# Altium schematic symbol library ThangTM_Sch.SchLib: 137 symbols (part 1 of 4)
Pins are listed as number, name and electrical type; pins without a type are passive.

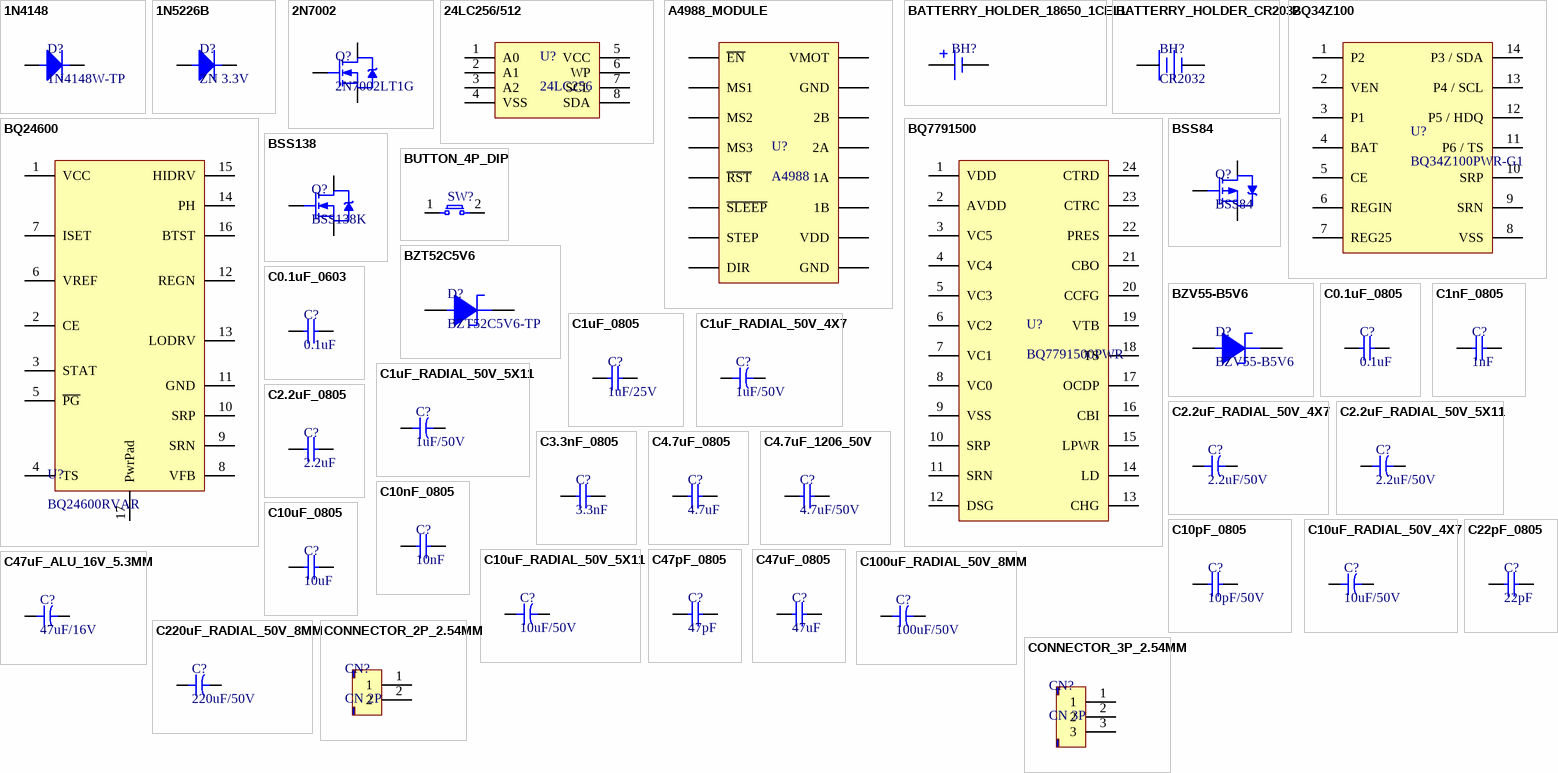
[diagram p0: symbols 1N4148 to CONNECTOR_3P_2.54MM]

## 1N4148
designator D?, comment 1N4148W-TP
DIODE GEN PURP 100V 150MA SOD123; Manufacturer: MCC; Max Surge Current: 2A; Forward Voltage: 1V; Recovery Time: 4ns; Max Reverse Leakage Current: 5uA; Power Dissipation: 400mW; Max Forward Surge Current (Ifsm): 1A; Element Configuration: Single; Polarity: Standard; Capacitance: 4pF; Supplier 1: Digi-Key; Supplier Part Number 1: 1N4148WTPMSCT-ND; Manufacturer Part Number: 1N4148W-TP; Stock 1: 463995; Pricing 1: 1 = 0.10000, 10 = 0.08100, 100 = 0.03400, 500 = 0.02670, 1000 = 0.01854 (USD); RoHS: Yes; Mount: Surface Mount; Number of Pins: 2; Min Operating Temperature: -65°C; Max Operating Temperature: 150°C; Packaging: Tape and Reel; Forward Current: 150mA; Package Quantity: 3000; Average Rectified Current: 150mA; Reverse Recovery Time: 4ns; Max Repetitive Reverse Voltage (Vrrm): 100V; Peak Non-Repetitive Surge Current: 2A; Voltage Rating (DC): 100V; Current Rating: 150mA; Output Current: 150mA; Max Reverse Voltage (DC): 100V; Length: 2.85mm; Height: 1.2mm; Width: 1.8mm; Radiation Hardening: No; REACH SVHC: Unknown; Lead Free: Lead Free; ComponentLink1URL: https://datasheet.ciiva.com/1243/1684829-1243908.pdf?src-supplier=Newark; ComponentLink1Description: https://datasheet.ciiva.com/1243/1684829-1243908.pdf?src-supplier=Newark; ComponentLink2URL: https://datasheet.ciiva.com/4435/1n4148wsod123-48460-4435223.pdf?src-supplier=Mouser; ComponentLink2Description: https://datasheet.ciiva.com/4435/1n4148wsod123-48460-4435223.pdf?src-supplier=Mouser; ComponentLink3URL: https://datasheet.ciiva.com/16836/1n4148wsod123-16836277.pdf?src-supplier=Future+Electronics; ComponentLink3Description: https://datasheet.ciiva.com/16836/1n4148wsod123-16836277.pdf?src-supplier=Future+Electronics; ComponentLink4URL: https://datasheet.ciiva.com/911/1n4148wsod123-911676.pdf?src-supplier=Digi-Key; ComponentLink4Description: https://datasheet.ciiva.com/911/1n4148wsod123-911676.pdf?src-supplier=Digi-Key; ComponentLink5URL: https://datasheet.ciiva.com/7622/1684829-7622556.pdf?src-supplier=Element14; ComponentLink5Description: https://datasheet.ciiva.com/7622/1684829-7622556.pdf?src-supplier=Element14; ComponentLink6URL: https://datasheet.ciiva.com/22747/1684829-22747439.pdf?src-supplier=Element14; ComponentLink6Description: https://datasheet.ciiva.com/22747/1684829-22747439.pdf?src-supplier=Element14; ComponentLink7URL: https://datasheet.ciiva.com/14557/70055519-14557767.pdf?src-supplier=Allied+Electronics; ComponentLink7Description: https://datasheet.ciiva.com/14557/70055519-14557767.pdf?src-supplier=Allied+Electronics; ComponentLink8URL: https://datasheet.ciiva.com/911/1n4148wsod123-911677.pdf?src-supplier=Digi-Key; ComponentLink8Description: https://datasheet.ciiva.com/911/1n4148wsod123-911677.pdf?src-supplier=Digi-Key; ComponentLink9URL: https://datasheet.ciiva.com/911/1n4148wsod123-911678.pdf?src-supplier=Digi-Key; ComponentLink9Description: https://datasheet.ciiva.com/911/1n4148wsod123-911678.pdf?src-supplier=Digi-Key
footprint SOD_123
pins: 1 Anode, 2 Cathode

## 1N5226B
designator D?, comment ZN 3.3V
DIODE ZENER 3.3V 500MW DO35; Manufacturer: ON Semiconductor / Fairchild; Manufacturer Part Number: 1N5226BTR; Tolerance: 5%; Forward Voltage: 1.2V; Impedance: 28R; Max Reverse Leakage Current: 25uA; Zener Current: 20mA; Element Configuration: Single; ESD Protection: No; Supplier 1: Digi-Key; Stock 1: 17133; Pricing 1: 1 = 0.14000, 10 = 0.12700, 25 = 0.12120, 100 = 0.05320, 250 = 0.05112, 500 = 0.04182, 1000 = 0.02904, 2500 = 0.02536 (USD); RoHS: Yes; Mount: Through Hole; Number of Pins: 2; Weight: 80g; Contact Plating: Tin,Matte; Min Operating Temperature: -65°C; Max Operating Temperature: 200°C; Packaging: Tape and Reel; Max Power Dissipation: 500mW; Package Quantity: 5000; Zener Voltage: 3.3V; Power Dissipation: 500mW; Voltage Tolerance: 5%; Test Current: 20mA; Working Voltage: 3.3V; Peak Reverse Current: 25uA; Power Rating: 500mW; Voltage Rating (DC): 3.3V; Diameter: 1.91mm; Length: 4.56mm; Radiation Hardening: No; REACH SVHC: No SVHC; Lead Free: Lead Free; ComponentLink1URL: https://datasheet.ciiva.com/34302/1200362-34302069.pdf?src-supplier=Jameco; ComponentLink1Description: https://datasheet.ciiva.com/34302/1200362-34302069.pdf?src-supplier=Jameco; ComponentLink2URL: https://datasheet.ciiva.com/8346/1n5230b-8346102.pdf?src-supplier=Avnet; ComponentLink2Description: https://datasheet.ciiva.com/8346/1n5230b-8346102.pdf?src-supplier=Avnet; ComponentLink3URL: https://datasheet.ciiva.com/8346/1n5230b-8346105.pdf?src-supplier=Avnet; ComponentLink3Description: https://datasheet.ciiva.com/8346/1n5230b-8346105.pdf?src-supplier=Avnet; ComponentLink4URL: https://datasheet.ciiva.com/26247/1n5230b-26247818.pdf?src-supplier=Avnet+Europe; ComponentLink4Description: https://datasheet.ciiva.com/26247/1n5230b-26247818.pdf?src-supplier=Avnet+Europe; ComponentLink5URL: https://datasheet.ciiva.com/46425/1727536-46425885.pdf?src-supplier=Element14; ComponentLink5Description: https://datasheet.ciiva.com/46425/1727536-46425885.pdf?src-supplier=Element14; Supplier Part Number 1: 1N5226BFSCT-ND
footprint DO35
pins: 1 Anode, 2 Cathode

## 2N7002
designator Q?, comment 2N7002LT1G
MOSFET N-CH 60V 0.115A SOT-23; Manufacturer: ON Semiconductor; Continuous Drain Current (ID): 115mA; Turn-Off Delay Time: 40ns; Turn-On Delay Time: 20ns; Gate to Source Voltage (Vgs): 20V; Rds On Max: 7.5R; Input Capacitance: 50pF; Nominal Vgs: 2.5V; Number of Elements: 1; Max Power Dissipation: 225mW; Power Dissipation: 300mW; Element Configuration: Single; Supplier 1: Digi-Key; Supplier Part Number 1: 2N7002LT1GOSCT-ND; Manufacturer Part Number: 2N7002LT1G; Stock 1: 2007608; Pricing 1: 1 = 0.19000, 10 = 0.16900, 100 = 0.07080, 500 = 0.05564, 1000 = 0.03864 (USD); RoHS: Yes; Case/Package: SOT-23-3; Number of Pins: 3; Contact Plating: Tin,Matte; Min Operating Temperature: -55°C; Max Operating Temperature: 150°C; Package Quantity: 1; Packaging: Tape and Reel; Drain to Source Voltage (Vdss): 60V; Drain to Source Breakdown Voltage: 60V; Drain to Source Resistance: 7.5R; Threshold Voltage: 2.5V; Voltage Rating (DC): 60V; Current Rating: 115mA; On-State Resistance: 7.5R; Number of Channels: 1; Length: 3.04mm; Height: 1.01mm; Width: 1.4mm; Radiation Hardening: No; REACH SVHC: No SVHC; Lead Free: Lead Free; Halogen Free: Halogen Free; ComponentLink1URL: https://datasheet.ciiva.com/936/2n7002l-d-936784.pdf?src-supplier=Digi-Key; ComponentLink1Description: https://datasheet.ciiva.com/936/2n7002l-d-936784.pdf?src-supplier=Digi-Key; ComponentLink2URL: https://datasheet.ciiva.com/22749/1747988-22749570.pdf?src-supplier=Element14; ComponentLink2Description: https://datasheet.ciiva.com/22749/1747988-22749570.pdf?src-supplier=Element14; ComponentLink3URL: https://datasheet.ciiva.com/1188/97418-1188470.pdf?src-supplier=Element14; ComponentLink3Description: https://datasheet.ciiva.com/1188/97418-1188470.pdf?src-supplier=Element14; ComponentLink4URL: https://datasheet.ciiva.com/936/2n7002l-d-936785.pdf?src-supplier=Digi-Key; ComponentLink4Description: https://datasheet.ciiva.com/936/2n7002l-d-936785.pdf?src-supplier=Digi-Key; ComponentLink5URL: https://datasheet.ciiva.com/936/2n7002l-d-936786.pdf?src-supplier=Digi-Key; ComponentLink5Description: https://datasheet.ciiva.com/936/2n7002l-d-936786.pdf?src-supplier=Digi-Key; ComponentLink6URL: https://datasheet.ciiva.com/1254/1747988-1254500.pdf?src-supplier=Newark; ComponentLink6Description: https://datasheet.ciiva.com/1254/1747988-1254500.pdf?src-supplier=Newark; ComponentLink7URL: https://datasheet.ciiva.com/24157/2n7002l-d-24157398.pdf?src-supplier=Future+Electronics; ComponentLink7Description: https://datasheet.ciiva.com/24157/2n7002l-d-24157398.pdf?src-supplier=Future+Electronics; ComponentLink8URL: https://datasheet.ciiva.com/1188/97418-1188471.pdf?src-supplier=Element14; ComponentLink8Description: https://datasheet.ciiva.com/1188/97418-1188471.pdf?src-supplier=Element14; ComponentLink9URL: https://datasheet.ciiva.com/8114/2n7002l-d-8114823.pdf?src-supplier=Avnet; ComponentLink9Description: https://datasheet.ciiva.com/8114/2n7002l-d-8114823.pdf?src-supplier=Avnet; ComponentLink10URL: https://datasheet.ciiva.com/3304/2n7002l-d-3304393.pdf?src-supplier=Avnet; ComponentLink10Description: https://datasheet.ciiva.com/3304/2n7002l-d-3304393.pdf?src-supplier=Avnet; ComponentLink11URL: https://datasheet.ciiva.com/26146/2n7002l-d-26146173.pdf?src-supplier=Avnet+Europe; ComponentLink11Description: https://datasheet.ciiva.com/26146/2n7002l-d-26146173.pdf?src-supplier=Avnet+Europe; ComponentLink12URL: https://datasheet.ciiva.com/16542/2n7002l-d-16542607.pdf?src-supplier=Avnet+Asia; ComponentLink12Description: https://datasheet.ciiva.com/16542/2n7002l-d-16542607.pdf?src-supplier=Avnet+Asia
footprint SOT_23
pins: 1 G, 2 D, 3 S

## 24LC256/512
designator U?, comment 24LC256
footprint SOIC8
pins: 1 A0, 2 A1, 3 A2, 4 VSS, 5 VCC, 6 WP, 7 SCL, 8 SDA

## A4988_MODULE
designator U?, comment A4988
footprint MODULE_A4988
pins: 1 ~{EN}, 2 MS1, 3 MS2, 4 MS3, 5 ~{RST}, 6 ~{SLEEP}, 7 STEP, 8 DIR, 9 GND, 10 VDD, 11 1B, 12 1A, 13 2A, 14 2B, 15 GND, 16 VMOT

## BATTERRY_HOLDER_18650_1CELL
designator BH?, comment BH-18650-PC  (value not drawn)
Manufacturer: Memory Protection Devices; Number of Cells: 1; Supplier 1: Digi-Key; Supplier Part Number 1: BH-18650-PC-ND; Manufacturer Part Number: BH-18650-PC; Stock 1: 5780; Pricing 1: 1 = 3.79000, 10 = 3.18700, 100 = 2.63470, 500 = 2.27082, 1000 = 2.12027 (USD); RoHS: Yes; Mount: Through Hole,PCB; Min Operating Temperature: -40°C; Max Operating Temperature: 180°C; Package Quantity: 100; Termination: PC Pin; ComponentLink1URL: https://datasheet.ciiva.com/3/bh-18650-pc-datasheet-3874.pdf?src-supplier=Digi-Key; ComponentLink1Description: https://datasheet.ciiva.com/3/bh-18650-pc-datasheet-3874.pdf?src-supplier=Digi-Key
footprint BATTERRY_HOLDER_18650_1CELL
pins: 1 P, 2 N

## BATTERRY_HOLDER_CR2032
designator BH?, comment CR2032
Manufacturer: Memory Protection Devices; Manufacturer Part Number: BH-18650-PC; Number of Cells: 1; Supplier 1: Digi-Key; Supplier Part Number 1: BH-18650-PC-ND; Stock 1: 5780; Pricing 1: 1 = 3.79000, 10 = 3.18700, 100 = 2.63470, 500 = 2.27082, 1000 = 2.12027 (USD); RoHS: Yes; Mount: Through Hole,PCB; Min Operating Temperature: -40°C; Max Operating Temperature: 180°C; Package Quantity: 100; Termination: PC Pin; ComponentLink1URL: https://datasheet.ciiva.com/3/bh-18650-pc-datasheet-3874.pdf?src-supplier=Digi-Key; ComponentLink1Description: https://datasheet.ciiva.com/3/bh-18650-pc-datasheet-3874.pdf?src-supplier=Digi-Key
footprint BATTERRY_HOLDER_CR2032
pins: 1 N, 2 P

## BQ34Z100
designator U?, comment BQ34Z100PWR-G1
IC BATT MGMT LIION/LPO4 14TSSOP; Manufacturer: Texas Instruments; Interface: I2C; Operating Supply Voltage: 4.5V; Supplier 1: Digi-Key; Supplier Part Number 1: 296-39949-1-ND; Manufacturer Part Number: BQ34Z100PWR-G1; Stock 1: 13988; Pricing 1: 1 = 4.20000, 10 = 3.77500, 100 = 2.93450, 500 = 2.53792, 1000 = 2.10965 (USD); RoHS: Yes; Mount: Surface Mount; Case/Package: TSSOP; Number of Pins: 14; Weight: 0.004949oz; Contact Plating: Gold; Min Operating Temperature: -40°C; Max Operating Temperature: 85°C; Packaging: Tape and Reel; Package Quantity: 2000; Lead Free: Lead Free; ComponentLink1URL: http://www.ti.com/general/docs/lit/getliterature.tsp?genericPartNumber=BQ34Z100-G1&amp;&amp;fileType=pdf&src-supplier=Avnet+Asia; ComponentLink1Description: http://www.ti.com/general/docs/lit/getliterature.tsp?genericPartNumber=BQ34Z100-G1&amp;&amp;fileType=pdf&src-supplier=Avnet+Asia; ComponentLink2URL: http://www.ti.com/general/docs/lit/getliterature.tsp?genericPartNumber=BQ34Z100-G1&&fileType=pdf&src-supplier=Avnet; ComponentLink2Description: http://www.ti.com/general/docs/lit/getliterature.tsp?genericPartNumber=BQ34Z100-G1&&fileType=pdf&src-supplier=Avnet; ComponentLink3URL: http://www.ti.com/lit/ds/symlink/bq34z100-g1.pdf?src-supplier=Digi-Key; ComponentLink3Description: http://www.ti.com/lit/ds/symlink/bq34z100-g1.pdf?src-supplier=Digi-Key; ComponentLink4URL: http://www.ti.com/lit/gpn/bq34z100-g1?src-supplier=Mouser; ComponentLink4Description: http://www.ti.com/lit/gpn/bq34z100-g1?src-supplier=Mouser
footprint TSSOP14
pins: 1 P2, 2 VEN, 3 P1, 4 BAT, 5 CE, 6 REGIN, 7 REG25, 8 VSS, 9 SRN, 10 SRP, 11 P6 / TS, 12 P5 / HDQ, 13 P4 / SCL, 14 P3 / SDA

## BQ24600
designator U?, comment BQ24600RVAR
IC SYNC SW-MODE BAT CHRGR 16VQFN; Manufacturer: Texas Instruments; Min Supply Voltage: 5V; Max Supply Voltage: 28V; Output Current: 10A; Switching Frequency: 1.2MHz; Number of Cells: 123456; Supplier 1: Digi-Key; Supplier Part Number 1: 296-47740-1-ND; Manufacturer Part Number: BQ24600RVAR; Stock 1: 9000; Pricing 1: 1 = 5.76000, 10 = 5.17700, 100 = 4.02440, 500 = 3.48058, 1000 = 2.89323 (USD); RoHS: Yes; Case/Package: VQFN EP; Number of Pins: 16; Contact Plating: Gold; Min Operating Temperature: -40°C; Max Operating Temperature: 85°C; Package Quantity: 3000; Packaging: Tape and Reel; Min Input Voltage: 5V; Radiation Hardening: No; Lead Free: Lead Free; ComponentLink1URL: https://datasheet.ciiva.com/1934/bq24600-1934848.pdf?src-supplier=Digi-Key; ComponentLink1Description: https://datasheet.ciiva.com/1934/bq24600-1934848.pdf?src-supplier=Digi-Key; ComponentLink2URL: https://datasheet.ciiva.com/15115/getdatasheetpartid-517716-15115134.pdf?src-supplier=Verical; ComponentLink2Description: https://datasheet.ciiva.com/15115/getdatasheetpartid-517716-15115134.pdf?src-supplier=Verical; ComponentLink3URL: https://datasheet.ciiva.com/3214/bq24600-3214303.pdf?src-supplier=Avnet; ComponentLink3Description: https://datasheet.ciiva.com/3214/bq24600-3214303.pdf?src-supplier=Avnet
footprint VQFN16 (QFN, 16-Leads, Body 4.30x4.30mm, Pitch 0.50mm, Thermal Pad 2.14x2.14mm, IPC Medium Density)
pins: 1 VCC, 2 CE, 3 STAT, 4 TS, 5 ~{PG}, 6 VREF, 7 ISET, 8 VFB, 9 SRN, 10 SRP, 11 GND, 12 REGN, 13 LODRV, 14 PH, 15 HIDRV, 16 BTST, 17 PwrPad

## BQ7791500
designator U?, comment BQ7791500PWR
BQ7791500PW; Manufacturer: Texas Instruments; Supplier 1: Digi-Key; Supplier Part Number 1: 296-50995-1-ND; Manufacturer Part Number: BQ7791500PWR; Stock 1: 396; Pricing 1: 1 = 2.67000, 10 = 2.40200, 100 = 1.81280, 500 = 1.54088, 1000 = 1.22364 (USD); RoHS: No; ComponentLink1URL: http://www.ti.com/lit/ds/symlink/bq77915.pdf?src-supplier=Digi-Key; ComponentLink1Description: http://www.ti.com/lit/ds/symlink/bq77915.pdf?src-supplier=Digi-Key
footprint TSSOP24
pins: 1 VDD, 2 AVDD, 3 VC5, 4 VC4, 5 VC3, 6 VC2, 7 VC1, 8 VC0, 9 VSS, 10 SRP, 11 SRN, 12 DSG, 13 CHG, 14 LD, 15 LPWR, 16 CBI, 17 OCDP, 18 TS, 19 VTB, 20 CCFG, 21 CBO, 22 PRES, 23 CTRC, 24 CTRD

## BSS84
designator Q?
MOSFET P-CH 50V 130MA SOT-23; Manufacturer: ON Semiconductor / Fairchild; Nominal Vgs: -1.7V; Max Power Dissipation: 360mW; Rds On Max: 10R; Input Capacitance: 73pF; Number of Elements: 1; Rise Time: 6.3ns; Dual Supply Voltage: -50V; Turn-Off Delay Time: 10ns; Gate to Source Voltage (Vgs): 20V; Turn-On Delay Time: 2.5ns; Element Configuration: Single; Current Rating: -130mA; Current: 13A; Supplier 1: Digi-Key; Supplier Part Number 1: BSS84CT-ND; Manufacturer Part Number: BSS84; Stock 1: 474645; Pricing 1: 1 = 0.34000, 10 = 0.28000, 100 = 0.11470, 500 = 0.09564, 1000 = 0.06645 (USD); RoHS: Yes; Mount: Surface Mount; Case/Package: SOT-23; Number of Pins: 3; Contact Plating: Tin,Matte; Min Operating Temperature: -55°C; Max Operating Temperature: 150°C; Packaging: Tape and Reel; Package Quantity: 1; Drain to Source Voltage (Vdss): 50V; Continuous Drain Current (ID): 130mA; Fall Time: 6.3ns; Drain to Source Resistance: 10R; Power Dissipation: 360mW; Threshold Voltage: -1.7V; Termination: SMD/SMT; Drain to Source Breakdown Voltage: -50V; Voltage Rating (DC): -50V; Voltage: 50V; On-State Resistance: 10R; Length: 2.92mm; Height: 0.93mm; Width: 3.05mm; Radiation Hardening: No; REACH SVHC: No SVHC; Lead Free: Lead Free; ComponentLink1URL: https://datasheet.ciiva.com/5836/1718091-5836624.pdf?src-supplier=Farnell; ComponentLink1Description: https://datasheet.ciiva.com/5836/1718091-5836624.pdf?src-supplier=Farnell; ComponentLink2URL: https://datasheet.ciiva.com/15137/getdatasheetpartid-37444-15137081.pdf?src-supplier=Verical; ComponentLink2Description: https://datasheet.ciiva.com/15137/getdatasheetpartid-37444-15137081.pdf?src-supplier=Verical; ComponentLink3URL: https://datasheet.ciiva.com/4439/bss84-39462-4439115.pdf?src-supplier=Mouser; ComponentLink3Description: https://datasheet.ciiva.com/4439/bss84-39462-4439115.pdf?src-supplier=Mouser; ComponentLink4URL: https://datasheet.ciiva.com/1190/1718091-1190246.pdf?src-supplier=Element14; ComponentLink4Description: https://datasheet.ciiva.com/1190/1718091-1190246.pdf?src-supplier=Element14; ComponentLink5URL: https://datasheet.ciiva.com/931/bss84-931768.pdf?src-supplier=Digi-Key; ComponentLink5Description: https://datasheet.ciiva.com/931/bss84-931768.pdf?src-supplier=Digi-Key; ComponentLink6URL: https://datasheet.ciiva.com/1190/1718091-1190248.pdf?src-supplier=Element14; ComponentLink6Description: https://datasheet.ciiva.com/1190/1718091-1190248.pdf?src-supplier=Element14; ComponentLink7URL: https://datasheet.ciiva.com/931/bss84-931769.pdf?src-supplier=Digi-Key; ComponentLink7Description: https://datasheet.ciiva.com/931/bss84-931769.pdf?src-supplier=Digi-Key; ComponentLink8URL: https://datasheet.ciiva.com/8115/bss84-8115305.pdf?src-supplier=Avnet; ComponentLink8Description: https://datasheet.ciiva.com/8115/bss84-8115305.pdf?src-supplier=Avnet; ComponentLink9URL: https://datasheet.ciiva.com/931/bss84-931770.pdf?src-supplier=Digi-Key; ComponentLink9Description: https://datasheet.ciiva.com/931/bss84-931770.pdf?src-supplier=Digi-Key; ComponentLink10URL: https://datasheet.ciiva.com/22655/1718091-22655243.pdf?src-supplier=Element14; ComponentLink10Description: https://datasheet.ciiva.com/22655/1718091-22655243.pdf?src-supplier=Element14; ComponentLink11URL: https://datasheet.ciiva.com/8115/bss84-8115308.pdf?src-supplier=Avnet; ComponentLink11Description: https://datasheet.ciiva.com/8115/bss84-8115308.pdf?src-supplier=Avnet; ComponentLink12URL: https://datasheet.ciiva.com/26144/bss84-26144142.pdf?src-supplier=Avnet+Europe; ComponentLink12Description: https://datasheet.ciiva.com/26144/bss84-26144142.pdf?src-supplier=Avnet+Europe; ComponentLink13URL: https://datasheet.ciiva.com/1255/1718091-1255039.pdf?src-supplier=Newark; ComponentLink13Description: https://datasheet.ciiva.com/1255/1718091-1255039.pdf?src-supplier=Newark
footprint SOT_23
pins: 1 G, 2 D, 3 S

## BSS138
designator Q?, comment BSS138K
MOSFET N-CH 50V 220MA SOT-23-3; Manufacturer: ON Semiconductor / Fairchild; Input Capacitance: 58pF; Number of Elements: 1; Max Power Dissipation: 350mW; Nominal Vgs: 600mV; Rds On Max: 1.6R; Drain to Source Resistance: 2.5R; Turn-Off Delay Time: 60ns; Turn-On Delay Time: 5ns; Element Configuration: Single; Gate to Source Voltage (Vgs): 12V; Fall Time: 35ns; Supplier 1: Digi-Key; Manufacturer Part Number: BSS138K; Stock 1: 465935; Pricing 1: 1 = 0.36000, 10 = 0.29500, 100 = 0.15620, 500 = 0.10276, 1000 = 0.06987 (USD); RoHS: Yes; Mount: Surface Mount; Case/Package: SOT-23; Number of Pins: 3; Weight: 0.03g; Contact Plating: Tin,Matte; Min Operating Temperature: -55°C; Max Operating Temperature: 150°C; Packaging: Tape and Reel; Package Quantity: 1; Continuous Drain Current (ID): 220mA; Drain to Source Breakdown Voltage: 50V; Power Dissipation: 350mW; Drain to Source Voltage (Vdss): 50V; Threshold Voltage: 600mV; Rise Time: 5ns; On-State Resistance: 1.6R; Length: 2.92mm; Height: 0.93mm; Width: 1.3mm; REACH SVHC: No SVHC; Lead Free: Lead Free; ComponentLink1URL: https://datasheet.ciiva.com/16965/bss138k-16965154.pdf?src-supplier=Future+Electronics; ComponentLink1Description: https://datasheet.ciiva.com/16965/bss138k-16965154.pdf?src-supplier=Future+Electronics; ComponentLink2URL: https://datasheet.ciiva.com/931/bss138k-931783.pdf?src-supplier=Digi-Key; ComponentLink2Description: https://datasheet.ciiva.com/931/bss138k-931783.pdf?src-supplier=Digi-Key; ComponentLink3URL: https://datasheet.ciiva.com/931/bss138k-931784.pdf?src-supplier=Digi-Key; ComponentLink3Description: https://datasheet.ciiva.com/931/bss138k-931784.pdf?src-supplier=Digi-Key; ComponentLink4URL: https://datasheet.ciiva.com/931/bss138k-931785.pdf?src-supplier=Digi-Key; ComponentLink4Description: https://datasheet.ciiva.com/931/bss138k-931785.pdf?src-supplier=Digi-Key; ComponentLink5URL: https://datasheet.ciiva.com/8115/bss138k-8115354.pdf?src-supplier=Avnet; ComponentLink5Description: https://datasheet.ciiva.com/8115/bss138k-8115354.pdf?src-supplier=Avnet; Supplier Part Number 1: BSS138KCT-ND
footprint SOT_23
pins: 1 G, 2 D, 3 S

## BUTTON_4P_DIP
designator SW?, comment 1825910-6  (value not drawn)
ALCOSWITCH - TE CONNECTIVITY - 1825910-6 - TACT SWITCH, SPST, 0.05A, 24VDC, SOLDER; Manufacturer: TE Connectivity Alcoswitch; Actuator Material: PBT; Mechanical Life: 100000Cycles; Operating Force: 160gf; Illumination Type: Non-Illuminated,Illuminated; Switch Travel: 0.25mm; Switch Function: Off-Mom; Actuator Type: Standard; Max Voltage Rating (DC): 24V; Contact Current Rating: 50mA; Contact Resistance: 100mR; Actuator Length: 0.055inch; Supplier 1: Digi-Key; Supplier Part Number 1: 450-1650-ND; Manufacturer Part Number: 1825910-6; Stock 1: 87641; Pricing 1: 1 = 0.10000, 10 = 0.10100, 25 = 0.09760, 50 = 0.09400, 100 = 0.08880, 250 = 0.08352, 500 = 0.08006, 1000 = 0.06091, 5000 = 0.05047 (USD); RoHS: Yes; Mount: Through Hole; Contact Material: Copper Alloy; Contact Plating: Silver; Min Operating Temperature: -35°C; Max Operating Temperature: 85°C; Termination: PC Pins; Throw Configuration: SPST; Package Quantity: 750; Packaging: Loose Piece; Orientation: Straight; Max Current Rating: 50mA; Electrical Life: 100000Cycles; Type: Switch; Length: 5.99mm; REACH SVHC: Unknown; ELV: Compliant; Lead Free: Lead Free; ComponentLink1URL: https://datasheet.ciiva.com/30199/1825910-6rqpn1825910-6-30199520.pdf?src-supplier=Onlinecomponents.com; ComponentLink1Description: https://datasheet.ciiva.com/30199/1825910-6rqpn1825910-6-30199520.pdf?src-supplier=Onlinecomponents.com; ComponentLink2URL: https://datasheet.ciiva.com/15184/getdatasheetpartid-395915-15184509.pdf?src-supplier=Verical; ComponentLink2Description: https://datasheet.ciiva.com/15184/getdatasheetpartid-395915-15184509.pdf?src-supplier=Verical
footprint BUTTON_4P_DIP
pins: 1, 2

## BZT52C5V6
designator D?, comment BZT52C5V6-TP
DIODE ZENER 5.6V 500MW SOD123; Manufacturer: MCC; Tolerance: 7%; Impedance: 40R; Voltage Tolerance: 5%; Max Reverse Leakage Current: 1uA; Test Current: 5mA; Element Configuration: Single; Supplier 1: Digi-Key; Supplier Part Number 1: BZT52C5V6-TPMSCT-ND; Manufacturer Part Number: BZT52C5V6-TP; Stock 1: 56702; Pricing 1: 1 = 0.20000, 10 = 0.16600, 25 = 0.13920, 100 = 0.06800, 250 = 0.06688, 500 = 0.05670, 1000 = 0.03940 (USD); RoHS: Yes; Mount: Surface Mount; Number of Pins: 2; Min Operating Temperature: -65°C; Max Operating Temperature: 175°C; Package Quantity: 1; Packaging: Tape and Reel; Zener Voltage: 5.6V; Max Power Dissipation: 500mW; Power Dissipation: 500mW; Power Rating: 500mW; Voltage Rating (DC): 5.6V; Lead Free: Lead Free; ComponentLink1URL: https://datasheet.ciiva.com/890/bzt52c2v4bzt52c43500mwsod-123-890416.pdf?src-supplier=Digi-Key; ComponentLink1Description: https://datasheet.ciiva.com/890/bzt52c2v4bzt52c43500mwsod-123-890416.pdf?src-supplier=Digi-Key; ComponentLink2URL: https://datasheet.ciiva.com/890/bzt52c2v4bzt52c51500mwsod-123-890415.pdf?src-supplier=Digi-Key; ComponentLink2Description: https://datasheet.ciiva.com/890/bzt52c2v4bzt52c51500mwsod-123-890415.pdf?src-supplier=Digi-Key
footprint SOD_123
pins: 1 Anode, 2 Cathode

## BZV55-B5V6
designator D?
DIODE ZENER 5.6V 500MW SOD80C; Manufacturer: Philips; Manufacturer Part Number: BZV55-B5V6,115; Supplier 1: Digi-Key; Supplier Part Number 1: 1727-4956-1-ND; Stock 1: 5296; Pricing 1: 1 = 0.36000, 10 = 0.26600, 100 = 0.12640, 500 = 0.10314, 1000 = 0.07652 (USD); RoHS: No; Number of Pins: 2; Packaging: Cut Tape; REACH SVHC: No SVHC; Lead Free: Lead Free
footprint SOD80C
pins: 1 Anode, 2 Cathode

## C0.1uF_0603
designator C?, comment 0.1uF
footprint C0603
pins: 1, 2

## C0.1uF_0805
designator C?, comment 0.1uF
KEMET         C0805C104Z5VACTU.             CERAMIC CAPACITOR, 0.1UF, 50V, Y5V, +80,-20%, 0805; Capacitance: 100nF; Tolerance: 80%; Dissipation Factor: 5%; Supplier 1: Digi-Key; Manufacturer: KEMET; Manufacturer Part Number: C0805C104Z5VACTU; Stock 1: 1249727; Pricing 1: 1 = 0.10000, 10 = 0.05700, 100 = 0.02540, 500 = 0.01818, 1000 = 0.01428 (USD); RoHS: Yes; Mount: Surface Mount,PCB; Case/Package: 0805; Number of Pins: 2; Case Code (Metric): 2012; Case Code (Imperial): 0805; Dielectric Material: Ceramic; Min Operating Temperature: -30°C; Max Operating Temperature: 85°C; Package Quantity: 1; Voltage Rating: 50V; Packaging: Tape and Reel; Voltage Rating (DC): 50V; Dielectric: Y5V; Termination: SMD/SMT; Voltage: 50V; Length: 2mm; Height: 0.9mm; Width: 0.049inch; Thickness: 0.039inch; Lead Pitch: 0.75mm; Depth: 1.25mm; Radiation Hardening: No; REACH SVHC: No SVHC; Lead Free: Lead Free; ComponentLink1URL: https://datasheet.ciiva.com/14597/70095383-14597846.pdf?src-supplier=Allied+Electronics; ComponentLink1Description: https://datasheet.ciiva.com/14597/70095383-14597846.pdf?src-supplier=Allied+Electronics; ComponentLink2URL: https://datasheet.ciiva.com/18219/getdatasheetpartid-37101-18219255.pdf?src-supplier=Verical; ComponentLink2Description: https://datasheet.ciiva.com/18219/getdatasheetpartid-37101-18219255.pdf?src-supplier=Verical; ComponentLink3URL: https://datasheet.ciiva.com/26847/getdatasheetpartid-321176-26847799.pdf?src-supplier=Verical; ComponentLink3Description: https://datasheet.ciiva.com/26847/getdatasheetpartid-321176-26847799.pdf?src-supplier=Verical; ComponentLink4URL: https://datasheet.ciiva.com/14608/70095383-14608251.pdf?src-supplier=Allied+Electronics; ComponentLink4Description: https://datasheet.ciiva.com/14608/70095383-14608251.pdf?src-supplier=Allied+Electronics; ComponentLink5URL: https://datasheet.ciiva.com/7842/1470417-7842543.pdf?src-supplier=Element14; ComponentLink5Description: https://datasheet.ciiva.com/7842/1470417-7842543.pdf?src-supplier=Element14; Supplier Part Number 1: 399-1177-1-ND
footprint C0805
pins: 1, 2

## C1nF_0805
designator C?, comment 1nF
Cap Ceramic 0.001uF 50V C0G 5% SMD 0805 125C Paper T/R; Manufacturer: KEMET; Manufacturer Part Number: C0805C102J5GACTU; Temperature Coefficient: 30ppm/°C; Dissipation Factor: 0.1%; Supplier 1: Digi-Key; Supplier Part Number 1: 399-1136-1-ND; Stock 1: 264362; Pricing 1: 1 = 0.13000, 10 = 0.09500, 100 = 0.04460, 500 = 0.03126, 1000 = 0.02589 (USD); RoHS: Yes; Mount: Surface Mount,PCB; Case/Package: 0805; Number of Pins: 2; Dielectric Material: Ceramic; Case Code (Imperial): 0805; Case Code (Metric): 2012; Contact Plating: Tin,Matte; Contact Material: Tin; Min Operating Temperature: -55°C; Max Operating Temperature: 125°C; Packaging: Tape and Reel; Capacitance: 1nF; Tolerance: 5%; Voltage Rating (DC): 50V; Dielectric: C0G; Package Quantity: 1; Voltage Rating: 50V; Termination: SMD/SMT; Voltage: 50V; Length: 2mm; Height: 0.78mm; Depth: 1.25mm; Width: 1.2mm; Lead Pitch: 0.75mm; Thickness: 0.035inch; Radiation Hardening: No; Lead Free: Lead Free; REACH SVHC: No SVHC; ComponentLink1URL: https://datasheet.ciiva.com/7172/1668701-7172393.pdf?src-supplier=Newark; ComponentLink1Description: https://datasheet.ciiva.com/7172/1668701-7172393.pdf?src-supplier=Newark; ComponentLink2URL: https://datasheet.ciiva.com/144/docfinderpartnumber-c0805c102j5gactu-144908.pdf?src-supplier=Digi-Key; ComponentLink2Description: https://datasheet.ciiva.com/144/docfinderpartnumber-c0805c102j5gactu-144908.pdf?src-supplier=Digi-Key; ComponentLink3URL: https://datasheet.ciiva.com/26923/getdatasheetpartid-772891-26923949.pdf?src-supplier=Verical; ComponentLink3Description: https://datasheet.ciiva.com/26923/getdatasheetpartid-772891-26923949.pdf?src-supplier=Verical; ComponentLink4URL: https://datasheet.ciiva.com/5904/1776094-5904675.pdf?src-supplier=Farnell; ComponentLink4Description: https://datasheet.ciiva.com/5904/1776094-5904675.pdf?src-supplier=Farnell; ComponentLink5URL: https://datasheet.ciiva.com/18193/getdatasheetpartid-293878-18193318.pdf?src-supplier=Verical; ComponentLink5Description: https://datasheet.ciiva.com/18193/getdatasheetpartid-293878-18193318.pdf?src-supplier=Verical; ComponentLink6URL: https://datasheet.ciiva.com/7842/kem-c1003-c0g-smd-7842520.pdf?src-supplier=Element14; ComponentLink6Description: https://datasheet.ciiva.com/7842/kem-c1003-c0g-smd-7842520.pdf?src-supplier=Element14; ComponentLink7URL: https://datasheet.ciiva.com/14586/70095383-14586728.pdf?src-supplier=Allied+Electronics; ComponentLink7Description: https://datasheet.ciiva.com/14586/70095383-14586728.pdf?src-supplier=Allied+Electronics; ComponentLink8URL: https://datasheet.ciiva.com/7842/f9080b-0402-series-c0g-7842521.pdf?src-supplier=Element14; ComponentLink8Description: https://datasheet.ciiva.com/7842/f9080b-0402-series-c0g-7842521.pdf?src-supplier=Element14; ComponentLink9URL: https://datasheet.ciiva.com/28672/1789732-28672793.pdf?src-supplier=Element14; ComponentLink9Description: https://datasheet.ciiva.com/28672/1789732-28672793.pdf?src-supplier=Element14; ComponentLink10URL: https://datasheet.ciiva.com/22749/1372242-22749722.pdf?src-supplier=Element14; ComponentLink10Description: https://datasheet.ciiva.com/22749/1372242-22749722.pdf?src-supplier=Element14; ComponentLink11URL: https://datasheet.ciiva.com/14602/70095383-14602923.pdf?src-supplier=Allied+Electronics; ComponentLink11Description: https://datasheet.ciiva.com/14602/70095383-14602923.pdf?src-supplier=Allied+Electronics; ComponentLink12URL: https://datasheet.ciiva.com/7842/1776094-7842154.pdf?src-supplier=Element14; ComponentLink12Description: https://datasheet.ciiva.com/7842/1776094-7842154.pdf?src-supplier=Element14; ComponentLink13URL: https://datasheet.ciiva.com/7842/1776094-7842155.pdf?src-supplier=Element14; ComponentLink13Description: https://datasheet.ciiva.com/7842/1776094-7842155.pdf?src-supplier=Element14
footprint C0805
pins: 1, 2

## C1uF_0805
designator C?, comment 1uF/25V
CAP CER 1UF 25V X7R 0805; Manufacturer: TDK; Manufacturer Part Number: CGA4J3X7R1E105K125AB; Tolerance: 10%; Supplier 1: Digi-Key; Supplier Part Number 1: 445-5687-1-ND; Stock 1: 188848; Pricing 1: 1 = 0.24000, 10 = 0.16300, 100 = 0.08260, 500 = 0.05652, 1000 = 0.04999 (USD); RoHS: Yes; Mount: Surface Mount; Case/Package: 0805; Weight: 0.000194oz; Case Code (Metric): 2012; Case Code (Imperial): 0805; Min Operating Temperature: -55°C; Max Operating Temperature: 125°C; Packaging: Tape and Reel; Capacitance: 1uF; Voltage Rating: 25V; Termination: SMD/SMT; Voltage Rating (DC): 25V; Package Quantity: 1; Dielectric: X7R; Composition: Ceramic; Length: 2mm; Height: 1.25mm; Width: 0.049inch; Thickness: 0.057inch; Depth: 1.25mm; Ratings: AEC-Q200; REACH SVHC: No SVHC; ComponentLink1URL: https://datasheet.ciiva.com/24216/cga4j3x7r1e105k125ab-266263-24216931.pdf?src-supplier=Mouser; ComponentLink1Description: https://datasheet.ciiva.com/24216/cga4j3x7r1e105k125ab-266263-24216931.pdf?src-supplier=Mouser
footprint C0805
pins: 1, 2

## C1uF_RADIAL_50V_4X7
designator C?, comment 1uF/50V
Aluminum Electrolytic Capacitors - Leaded 1uF 85c 20%; Manufacturer: Nichicon; Manufacturer Part Number: USA1H010MDD1TE; Ripple Current: 10mA; Voltage Rating: 50V; Polarity: Polar; Life (Hours): 2000Hour; Dissipation Factor: 0.1%; Lead Diameter: 0.45mm; Supplier 1: Digi-Key; Supplier Part Number 1: 493-14556-1-ND; Stock 1: 3984; Pricing 1: 1 = 0.24000, 10 = 0.16200, 100 = 0.09190, 500 = 0.06484, 1000 = 0.05674 (USD); RoHS: Yes; Mount: Through Hole; Case/Package: Radial; Min Operating Temperature: -40°C; Max Operating Temperature: 85°C; Capacitance: 1uF; Tolerance: 20%; Packaging: Tape and Reel; Termination: Radial; Package Quantity: 2000; Voltage Rating (DC): 50V; Length: 7mm; Lead Pitch: 0.059inch; Height - Seated (Max): 0.315inch; Lead Free: Lead Free; ComponentLink1URL: http://components.arrow.com/part/dataview/0323_01903968?src-supplier=Arrow+Europe; ComponentLink1Description: http://components.arrow.com/part/dataview/0323_01903968?src-supplier=Arrow+Europe; ComponentLink2URL: http://www.mouser.com/ds/2/293/e-usa_usr-880000.pdf?src-supplier=Mouser; ComponentLink2Description: http://www.mouser.com/ds/2/293/e-usa_usr-880000.pdf?src-supplier=Mouser; ComponentLink3URL: http://nichicon-us.com/english/products/pdfs/e-usa_usr.pdf?src-supplier=Digi-Key; ComponentLink3Description: http://nichicon-us.com/english/products/pdfs/e-usa_usr.pdf?src-supplier=Digi-Key
footprint CAP_RADIAL_4X7
pins: 1, 2

## C1uF_RADIAL_50V_5X11
designator C?, comment 1uF/50V
Aluminum Electrolytic Capacitors - Leaded 50volt 1uF 20% 85deg 2mm L/S; Manufacturer: Nichicon; Manufacturer Part Number: UVP1H010MDD1TD; Dielectric Material: Aluminium; Ripple Current: 17mA; Voltage Rating: 50V; Leakage Current: 3uA; Life (Hours): 2000Hour; Dissipation Factor: 0.14%; Supplier 1: Digi-Key; Stock 1: 11310; Pricing 1: 1 = 0.33000, 10 = 0.22400, 100 = 0.12680, 500 = 0.08950, 1000 = 0.07831 (USD); RoHS: Yes; Mount: Through Hole; Case/Package: Radial; Number of Pins: 2; Min Operating Temperature: -40°C; Max Operating Temperature: 85°C; Package Quantity: 1; Tolerance: 20%; Capacitance: 1uF; Packaging: Cut Tape; Termination: Radial; Voltage Rating (DC): 50V; Diameter: 5mm; Length: 11mm; Height: 11mm; Lead Pitch: 2mm; Height - Seated (Max): 0.492inch; REACH SVHC: No SVHC; ComponentLink1URL: https://datasheet.ciiva.com/7781/e-vp-7781717.pdf?src-supplier=Element14; ComponentLink1Description: https://datasheet.ciiva.com/7781/e-vp-7781717.pdf?src-supplier=Element14; ComponentLink2URL: https://datasheet.ciiva.com/29546/e-vp-29546942.pdf?src-supplier=Digi-Key; ComponentLink2Description: https://datasheet.ciiva.com/29546/e-vp-29546942.pdf?src-supplier=Digi-Key; ComponentLink3URL: https://datasheet.ciiva.com/29546/e-vp-29546943.pdf?src-supplier=Digi-Key; ComponentLink3Description: https://datasheet.ciiva.com/29546/e-vp-29546943.pdf?src-supplier=Digi-Key; Supplier Part Number 1: 493-12697-1-ND
footprint CAP_RADIAL_5X11
pins: 1, 2

## C2.2uF_0805
designator C?, comment 2.2uF
CAP CER 2.2UF 16V Y5V 0805; Manufacturer: Yageo; Manufacturer Part Number: CC0805ZRY5V7BB225; Tolerance: 80%; Supplier 1: Digi-Key; Supplier Part Number 1: 311-1463-1-ND; Stock 1: 79635; Pricing 1: 1 = 0.18000, 10 = 0.12600, 100 = 0.05900, 500 = 0.04138, 1000 = 0.03426 (USD); RoHS: Yes; Mount: Surface Mount; Case/Package: 0805; Number of Pins: 2; Case Code (Imperial): 0805; Case Code (Metric): 2012; Min Operating Temperature: -30°C; Max Operating Temperature: 85°C; Capacitance: 2.2uF; Dielectric: Y5V; Voltage Rating: 16V; Packaging: Tape and Reel; Package Quantity: 1; Termination: SMD/SMT; Voltage Rating (DC): 16V; Length: 2mm; Height: 0.85mm; Depth: 1.25mm; Width: 0.049inch; Thickness: 0.037inch; Radiation Hardening: No; Lead Free: Lead Free; Halogen Free: Halogen Free; ComponentLink1URL: https://datasheet.ciiva.com/176/mlccorderingcode-176969.pdf?src-supplier=Digi-Key; ComponentLink1Description: https://datasheet.ciiva.com/176/mlccorderingcode-176969.pdf?src-supplier=Digi-Key; ComponentLink2URL: https://datasheet.ciiva.com/16624/upy-gphc-y5v-6-3v-to-50v-5-16624681.pdf?src-supplier=Avnet+Europe; ComponentLink2Description: https://datasheet.ciiva.com/16624/upy-gphc-y5v-6-3v-to-50v-5-16624681.pdf?src-supplier=Avnet+Europe; ComponentLink3URL: https://datasheet.ciiva.com/176/mlccorderingcode-176970.pdf?src-supplier=Digi-Key; ComponentLink3Description: https://datasheet.ciiva.com/176/mlccorderingcode-176970.pdf?src-supplier=Digi-Key; ComponentLink4URL: https://datasheet.ciiva.com/176/mlccorderingcode-176971.pdf?src-supplier=Digi-Key; ComponentLink4Description: https://datasheet.ciiva.com/176/mlccorderingcode-176971.pdf?src-supplier=Digi-Key; ComponentLink5URL: https://datasheet.ciiva.com/5427/upy-gp-np0-16v-to-50v-8-3714-5427765.pdf?src-supplier=Mouser; ComponentLink5Description: https://datasheet.ciiva.com/5427/upy-gp-np0-16v-to-50v-8-3714-5427765.pdf?src-supplier=Mouser; ComponentLink6URL: https://datasheet.ciiva.com/15189/getdatasheetpartid-251808-15189237.pdf?src-supplier=Verical; ComponentLink6Description: https://datasheet.ciiva.com/15189/getdatasheetpartid-251808-15189237.pdf?src-supplier=Verical; ComponentLink7URL: https://datasheet.ciiva.com/11465/upy-gphc-y5v-6-3v-to-50v-5-11465852.pdf?src-supplier=Avnet; ComponentLink7Description: https://datasheet.ciiva.com/11465/upy-gphc-y5v-6-3v-to-50v-5-11465852.pdf?src-supplier=Avnet
footprint C0805
pins: 1, 2

## C2.2uF_RADIAL_50V_4X7
designator C?, comment 2.2uF/50V
CAP ALUM 2.2UF 20% 50V RADIAL; Manufacturer: Panasonic; Manufacturer Part Number: EEA-GA1H2R2H; Ripple Current: 18mA; Life (Hours): 1000Hour; Leakage Current: 3uA; Lead Diameter: 0.45mm; Supplier 1: Digi-Key; Supplier Part Number 1: P15835CT-ND; Stock 1: 24801; Pricing 1: 1 = 0.24000, 10 = 0.16400, 100 = 0.09310, 500 = 0.06568, 1000 = 0.05748 (USD); RoHS: Yes; Mount: Through Hole; Case/Package: Radial; Min Operating Temperature: -55°C; Max Operating Temperature: 105°C; Package Quantity: 1; Packaging: Ammo Pack; Tolerance: 20%; Capacitance: 2.2uF; Voltage Rating: 50V; Voltage Rating (DC): 50V; Termination: Radial; Features: General Purpose; Diameter: 4mm; Length: 7mm; Height: 7mm; Lead Pitch: 2.5mm; Height - Seated (Max): 0.276inch; Radiation Hardening: No; ComponentLink1URL: https://datasheet.ciiva.com/11681/aba0000ce99-11681192.pdf?src-supplier=Avnet; ComponentLink1Description: https://datasheet.ciiva.com/11681/aba0000ce99-11681192.pdf?src-supplier=Avnet
footprint CAP_RADIAL_4X7
pins: 1, 2

## C2.2uF_RADIAL_50V_5X11
designator C?, comment 2.2uF/50V
CAP ALUM 2.2UF 20% 50V RADIAL; Manufacturer: Nichicon; Manufacturer Part Number: UPS1H2R2MDD1TD; Ripple Current: 55mA; Impedance: 4.5R; Life (Hours): 2000Hour; Supplier 1: Digi-Key; Stock 1: 2588; Pricing 1: 1 = 0.29000, 10 = 0.19800, 100 = 0.11190, 500 = 0.07900, 1000 = 0.06913 (USD); RoHS: Yes; Mount: Through Hole; Case/Package: Radial; Min Operating Temperature: -55°C; Max Operating Temperature: 105°C; Capacitance: 2.2uF; Tolerance: 20%; Voltage Rating: 50V; Package Quantity: 1; Packaging: Tape and Reel; Termination: Radial; Voltage Rating (DC): 50V; Diameter: 5mm; Length: 11mm; Lead Pitch: 0.079inch; Height - Seated (Max): 0.492inch; Lead Free: Lead Free; ComponentLink1URL: https://datasheet.ciiva.com/16513/ups1h2r2mdd1td-16513300.pdf?src-supplier=Future+Electronics; ComponentLink1Description: https://datasheet.ciiva.com/16513/ups1h2r2mdd1td-16513300.pdf?src-supplier=Future+Electronics; ComponentLink2URL: https://datasheet.ciiva.com/6298/e-ps-6298238.pdf?src-supplier=Digi-Key; ComponentLink2Description: https://datasheet.ciiva.com/6298/e-ps-6298238.pdf?src-supplier=Digi-Key; Supplier Part Number 1: 493-5369-1-ND
footprint CAP_RADIAL_5X11
pins: 1, 2

## C3.3nF_0805
designator C?, comment 3.3nF
Cap Ceramic 0.0033uF 1000V X7R 10% SMD 0805 125°C T/R; Manufacturer: KEMET; Manufacturer Part Number: C0805C332KDRACAUTO; Voltage Rating: 1kV; Supplier 1: Digi-Key; Supplier Part Number 1: 399-16654-1-ND; Stock 1: 1791; Pricing 1: 1 = 0.44000, 10 = 0.31100, 100 = 0.20490, 500 = 0.15180, 1000 = 0.12903 (USD); RoHS: No; Mount: Surface Mount; Case/Package: 0805; Min Operating Temperature: -55°C; Max Operating Temperature: 125°C; Packaging: Cut Tape; Capacitance: 3.3nF; Tolerance: 10%; Ratings: AEC-Q200; ComponentLink1URL: https://api.kemet.com/component-edge/download/specsheet/C0805C332KDRACAUTO.pdf?src-supplier=Digi-Key; ComponentLink1Description: https://api.kemet.com/component-edge/download/specsheet/C0805C332KDRACAUTO.pdf?src-supplier=Digi-Key
footprint C0805
pins: 1, 2

## C4.7uF_0805
designator C?, comment 4.7uF
Multilayer Ceramic Capacitors MLCC - SMD/SMT 4.7uF 6.3V X5R 10%
footprint C0805
pins: 1, 2

## C4.7uF_1206_50V
designator C?, comment 4.7uF/50V
KEMET - C1206C475K5PACTU - CERAMIC CAPACITOR, 4.7UF, 50V, X5R, 10%, 1206, FULL REEL; Supplier 1: Digi-Key; Supplier Part Number 1: 399-5507-1-ND; Manufacturer: KEMET; Manufacturer Part Number: C1206C475K5PACTU; Stock 1: 70436; Pricing 1: 1 = 0.37000, 10 = 0.25900, 100 = 0.15520, 500 = 0.11642, 1000 = 0.09831 (USD); RoHS: Yes; Mount: Surface Mount; Case/Package: 1206; Number of Pins: 2; Dielectric Material: Ceramic; Contact Plating: Tin,Matte; Min Operating Temperature: -55°C; Max Operating Temperature: 85°C; Capacitance: 4.7uF; Tolerance: 10%; Packaging: Tape and Reel; Dielectric: X5R; Voltage: 50V; Termination: SMD/SMT; Voltage Rating (DC): 50V; Length: 3.2mm; Height: 1.6mm; Depth: 1.6mm; Radiation Hardening: No; Lead Free: Lead Free; ComponentLink1URL: http://www.farnell.com/datasheets/2740796.pdf?src-supplier=Farnell; ComponentLink1Description: http://www.farnell.com/datasheets/2740796.pdf?src-supplier=Farnell; ComponentLink2URL: https://media.digikey.com/pdf/Data%20Sheets/Kemet%20PDFs/C1206C475K5PAC.pdf?src-supplier=Digi-Key; ComponentLink2Description: https://media.digikey.com/pdf/Data%20Sheets/Kemet%20PDFs/C1206C475K5PAC.pdf?src-supplier=Digi-Key; ComponentLink3URL: http://components.arrow.com/part/dataview/0323_00069465?src-supplier=Arrow+Europe; ComponentLink3Description: http://components.arrow.com/part/dataview/0323_00069465?src-supplier=Arrow+Europe; ComponentLink4URL: http://www.farnell.com/datasheets/2122847.pdf?src-supplier=Element14; ComponentLink4Description: http://www.farnell.com/datasheets/2122847.pdf?src-supplier=Element14; ComponentLink5URL: http://www.farnell.com/datasheets/2740796.pdf?src-supplier=Newark; ComponentLink5Description: http://www.farnell.com/datasheets/2740796.pdf?src-supplier=Newark
footprint C1206
pins: 1, 2

## C10nF_0805
designator C?, comment 10nF
Cap Ceramic 0.01uF 100V X7R 10% SMD 0805 125C T/R; Manufacturer: KEMET; Manufacturer Part Number: C0805C103K1RAC7210; Supplier 1: Digi-Key; Stock 1: 22759; Pricing 1: 1 = 0.10000, 10 = 0.06800, 100 = 0.03040, 500 = 0.02172, 1000 = 0.01706, 2500 = 0.01551, 5000 = 0.01427 (USD); RoHS: Yes; Mount: Surface Mount; Case/Package: 0805; Case Code (Imperial): 0805; Case Code (Metric): 2012; Dielectric Material: Ceramic; Min Operating Temperature: -55°C; Max Operating Temperature: 125°C; Tolerance: 10%; Capacitance: 10nF; Dielectric: X7R; Packaging: Tape and Reel; Package Quantity: 10000; Voltage Rating: 100V; Voltage Rating (DC): 100V; Termination: SMD/SMT; Length: 2mm; Height: 0.78mm; Depth: 1.25mm; Radiation Hardening: No; ComponentLink1URL: http://components.arrow.com/part/dataview/0323_00324583?src-supplier=Arrow+Europe; ComponentLink1Description: http://components.arrow.com/part/dataview/0323_00324583?src-supplier=Arrow+Europe; ComponentLink2URL: http://www.mouser.com/ds/2/212/KEM_C1002_X7R_SMD-1102033.pdf?src-supplier=Mouser; ComponentLink2Description: http://www.mouser.com/ds/2/212/KEM_C1002_X7R_SMD-1102033.pdf?src-supplier=Mouser; ComponentLink3URL: http://components.arrow.com/part/dataview/2091052S6675795N7429?src-supplier=Arrow; ComponentLink3Description: http://components.arrow.com/part/dataview/2091052S6675795N7429?src-supplier=Arrow; ComponentLink4URL: https://www.verical.com/server-webapp/html/getDatasheet?partID=131027&src-supplier=Verical; ComponentLink4Description: https://www.verical.com/server-webapp/html/getDatasheet?partID=131027&src-supplier=Verical; ComponentLink5URL: http://www.kemet.com/kemet/web/homepage/kechome.nsf/weben/C4DA2DA1D1C9D3C3CA2570A50016092D/$file/KEM_C1002_X7R_SMD.pdf?src-supplier=Avnet+Europe; ComponentLink5Description: http://www.kemet.com/kemet/web/homepage/kechome.nsf/weben/C4DA2DA1D1C9D3C3CA2570A50016092D/$file/KEM_C1002_X7R_SMD.pdf?src-supplier=Avnet+Europe; ComponentLink6URL: http://www.kemet.com/kemet/web/homepage/kechome.nsf/weben/C4DA2DA1D1C9D3C3CA2570A50016092D/$file/KEM_C1002_X7R_SMD.pdf?src-supplier=Avnet; ComponentLink6Description: http://www.kemet.com/kemet/web/homepage/kechome.nsf/weben/C4DA2DA1D1C9D3C3CA2570A50016092D/$file/KEM_C1002_X7R_SMD.pdf?src-supplier=Avnet; ComponentLink7URL: https://api.kemet.com/component-edge/download/datasheet/C0805C103K1RAC7210.pdf?src-supplier=Digi-Key; ComponentLink7Description: https://api.kemet.com/component-edge/download/datasheet/C0805C103K1RAC7210.pdf?src-supplier=Digi-Key; Supplier Part Number 1: 399-17617-1-ND
footprint C0805
pins: 1, 2

## C10pF_0805
designator C?, comment 10pF/50V
footprint C0805
pins: 1, 2

## C10uF_0805
designator C?, comment 10uF
CAP CER 10UF 6.3V X5R 0805; Manufacturer: Samsung; Manufacturer Part Number: CL21A106KQCLRNC; Tolerance: 10%; Supplier 1: Digi-Key; Stock 1: 223622; Pricing 1: 1 = 0.12000, 10 = 0.08500, 100 = 0.03810, 500 = 0.02718, 1000 = 0.02136 (USD); RoHS: Yes; Mount: Surface Mount; Case/Package: 0805; Case Code (Metric): 2012; Case Code (Imperial): 0805; Min Operating Temperature: -55°C; Max Operating Temperature: 85°C; Package Quantity: 1; Packaging: Tape and Reel; Capacitance: 10uF; Voltage Rating: 6.3V; Length: 0.079inch; Width: 0.049inch; Thickness: 0.037inch; ComponentLink1URL: https://datasheet.ciiva.com/25772/cl21a106kqclrnc-25772948.pdf?src-supplier=Digi-Key; ComponentLink1Description: https://datasheet.ciiva.com/25772/cl21a106kqclrnc-25772948.pdf?src-supplier=Digi-Key; Supplier Part Number 1: 1276-2405-1-ND
footprint C0805
pins: 1, 2

## C10uF_RADIAL_50V_4X7
designator C?, comment 10uF/50V
CAP ALUM 10UF 20% 50V RADIAL; Manufacturer: Nichicon; Manufacturer Part Number: UVR1H100MDD6TP; Ripple Current: 45mA; Life (Hours): 2000Hour; Supplier 1: Digi-Key; Supplier Part Number 1: 493-12785-1-ND; Stock 1: 2852; Pricing 1: 1 = 0.33000, 10 = 0.22700, 100 = 0.13630, 500 = 0.10222, 1000 = 0.08632 (USD); RoHS: Yes; Mount: Through Hole; Case/Package: Radial; Min Operating Temperature: -40°C; Max Operating Temperature: 85°C; Package Quantity: 1; Packaging: Tape and Reel; Capacitance: 10uF; Tolerance: 20%; Voltage Rating: 50V; Lead Pitch: 0.059inch; Height - Seated (Max): 0.492inch; ComponentLink1URL: https://datasheet.ciiva.com/29550/e-vr-29550341.pdf?src-supplier=Digi-Key; ComponentLink1Description: https://datasheet.ciiva.com/29550/e-vr-29550341.pdf?src-supplier=Digi-Key
footprint CAP_RADIAL_4X7
pins: 1, 2

## C10uF_RADIAL_50V_5X11
designator C?, comment 10uF/50V
CAP ALUM 10UF 20% 50V RADIAL; Manufacturer: Panasonic; Manufacturer Part Number: ECA1HHG100I; Ripple Current: 39mA; Leakage Current: 3uA; Polarity: Polar; Life (Hours): 1000Hour; Lead/Base Style: Straight; Lead Diameter: 0.5mm; ComponentLink1URL: https://datasheet.ciiva.com/29550/e-vr-29550341.pdf?src-supplier=Digi-Key; ComponentLink1Description: https://datasheet.ciiva.com/29550/e-vr-29550341.pdf?src-supplier=Digi-Key; Supplier 1: Digi-Key; Stock 1: 30877; Pricing 1: 1 = 0.25000, 10 = 0.17300, 100 = 0.09820, 500 = 0.06928, 1000 = 0.06063 (USD); RoHS: Yes; Mount: Through Hole; Case/Package: Radial; Contact Plating: Tin; Min Operating Temperature: -55°C; Max Operating Temperature: 105°C; Capacitance: 10uF; Tolerance: 20%; Termination: Radial; Package Quantity: 2000; Packaging: Ammo Pack; Voltage Rating: 50V; Voltage Rating (DC): 50V; Diameter: 5mm; Length: 11mm; Height: 11mm; Lead Pitch: 2.5mm; Height - Seated (Max): 0.472inch; Radiation Hardening: No; Lead Free: Lead Free; ComponentLink2URL: https://datasheet.ciiva.com/26882/getdatasheetpartid-479260-26882746.pdf?src-supplier=Verical; ComponentLink2Description: https://datasheet.ciiva.com/26882/getdatasheetpartid-479260-26882746.pdf?src-supplier=Verical; ComponentLink3URL: https://datasheet.ciiva.com/11680/aba0000ce26-11680984.pdf?src-supplier=Avnet; ComponentLink3Description: https://datasheet.ciiva.com/11680/aba0000ce26-11680984.pdf?src-supplier=Avnet; ComponentLink4URL: https://datasheet.ciiva.com/17536/aba0000ce26-17536525.pdf?src-supplier=Avnet+Europe; ComponentLink4Description: https://datasheet.ciiva.com/17536/aba0000ce26-17536525.pdf?src-supplier=Avnet+Europe; ComponentLink5URL: https://datasheet.ciiva.com/16465/aba0000ce26-16465311.pdf?src-supplier=Avnet+Asia; ComponentLink5Description: https://datasheet.ciiva.com/16465/aba0000ce26-16465311.pdf?src-supplier=Avnet+Asia; Supplier Part Number 1: P19445CT-ND
footprint CAP_RADIAL_5X11
pins: 1, 2

## C22pF_0805
designator C?, comment 22pF
Capacitor: ceramic; MLCC; 22pF; 50VDC; C0G; ±5%; SMD; 0805
footprint C0805
pins: 1, 2